# Altium footprint library MPU-6050.PcbLib: 1 footprints
Each footprint in its own frame and in the unit in brackets; x right, y up, seen from the top. Pads: shape width x height; smd on the part's side, far side on the other; paste and mask are expansions set on the pad; w line width, h text height; cw(c..) or ccw(c..) is an arc to the next point about the centre after c.
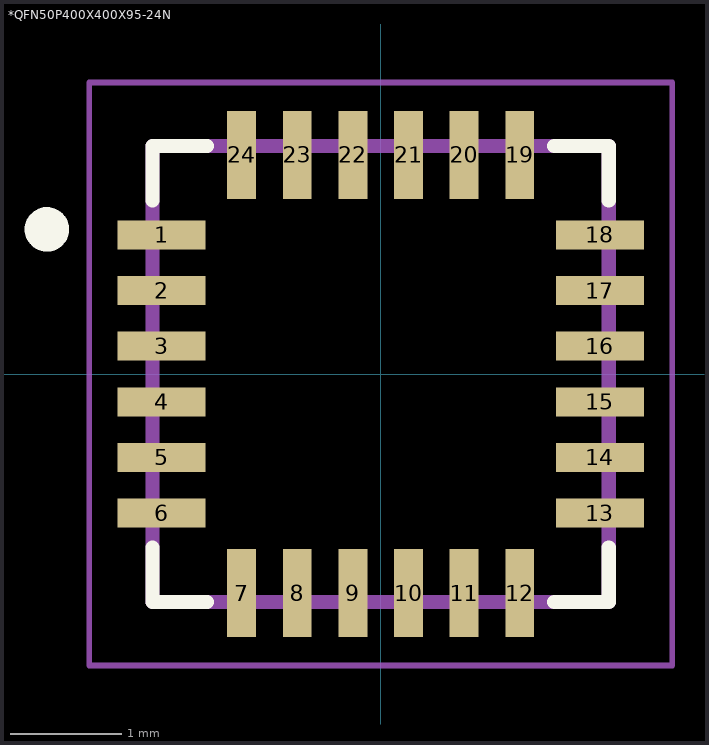
[diagram p0: the footprint, top view; thin cyan lines are the x and y axes]

## *QFN50P400X400X95-24N [mm]
pads (24):
  rect 0.79x0.26 smd: 1(-1.97,1.25) 2(-1.97,0.75) 3(-1.97,0.25) 4(-1.97,-0.25) 5(-1.97,-0.75) 6(-1.97,-1.25) 13(1.97,-1.25) 14(1.97,-0.75) 15(1.97,-0.25) 16(1.97,0.25) 17(1.97,0.75) 18(1.97,1.25)
  rect 0.26x0.79 smd: 7(-1.25,-1.97) 8(-0.75,-1.97) 9(-0.25,-1.97) 10(0.25,-1.97) 11(0.75,-1.97) 12(1.25,-1.97) 19(1.25,1.97) 20(0.75,1.97) 21(0.25,1.97) 22(-0.25,1.97) 23(-0.75,1.97) 24(-1.25,1.97)
Top Overlay:
  circle w0.2: c-3,1.3 r0.1
  lines w0.127: -2.05,-1.56 -2.05,-2.05 -1.56,-2.05 ; -2.05,1.56 -2.05,2.05 -1.56,2.05 ; 1.56,-2.05 2.05,-2.05 2.05,-1.56 ; 1.56,2.05 2.05,2.05 2.05,1.56
Mechanical 13:
  lines w0.127: -2.05,-2.05 2.05,-2.05 ; -2.05,-2.05 -2.05,2.05 ; -2.05,-2.05 2.05,-2.05 ; -2.05,-2.05 -2.05,2.05 ; -2.05,2.05 2.05,2.05 ; -2.05,2.05 2.05,2.05 ; 2.05,-2.05 2.05,2.05 ; 2.05,-2.05 2.05,2.05
Mechanical 16:
  lines w0.05: -2.62,-2.62 2.62,-2.62 2.62,2.62 -2.62,2.62 -2.62,-2.62